# EAGLE library part LMV324QT (library LMV324)
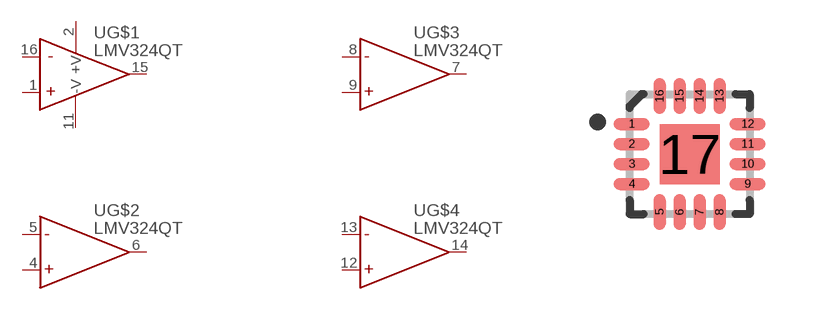
[diagram p0: symbol with the pads of QFN-16_3X3; footprint QFN-16_3X3]

Designator prefix -; gates G$1=LMV324 G$2=LMV324_2 G$3=LMV324_2 G$4=LMV324_2

## LMV324QT  [QFN-16_3X3]
1  G$1:+IN  in
2  G$1:+V  pwr
4  G$2:+IN  in
5  G$2:-IN  in
6  G$2:OUT  out
7  G$3:OUT  out
8  G$3:-IN  in
9  G$3:+IN  in
11  G$1:-V  pwr
12  G$4:+IN  in
13  G$4:-IN  in
14  G$4:OUT  out
15  G$1:OUT  out
16  G$1:-IN  in

## Footprint QFN-16_3X3 (pad centres in mm)
smd 0.9 x 0.3: 1 -1.45,0.75; 2 -1.45,0.25; 3 -1.45,-0.25; 4 -1.45,-0.75; 9 1.45,-0.75; 10 1.45,-0.25; 11 1.45,0.25; 12 1.45,0.75
smd 0.3 x 0.9: 5 -0.75,-1.45; 6 -0.25,-1.45; 7 0.25,-1.45; 8 0.75,-1.45; 13 0.75,1.45; 14 0.25,1.45; 15 -0.25,1.45; 16 -0.75,1.45
smd 1.5 x 1.5: 17 0,0